# Altium integrated library Analog Devices Interface and Isolation Digital Isolators.IntLib: 644 symbols (part 11 of 37)
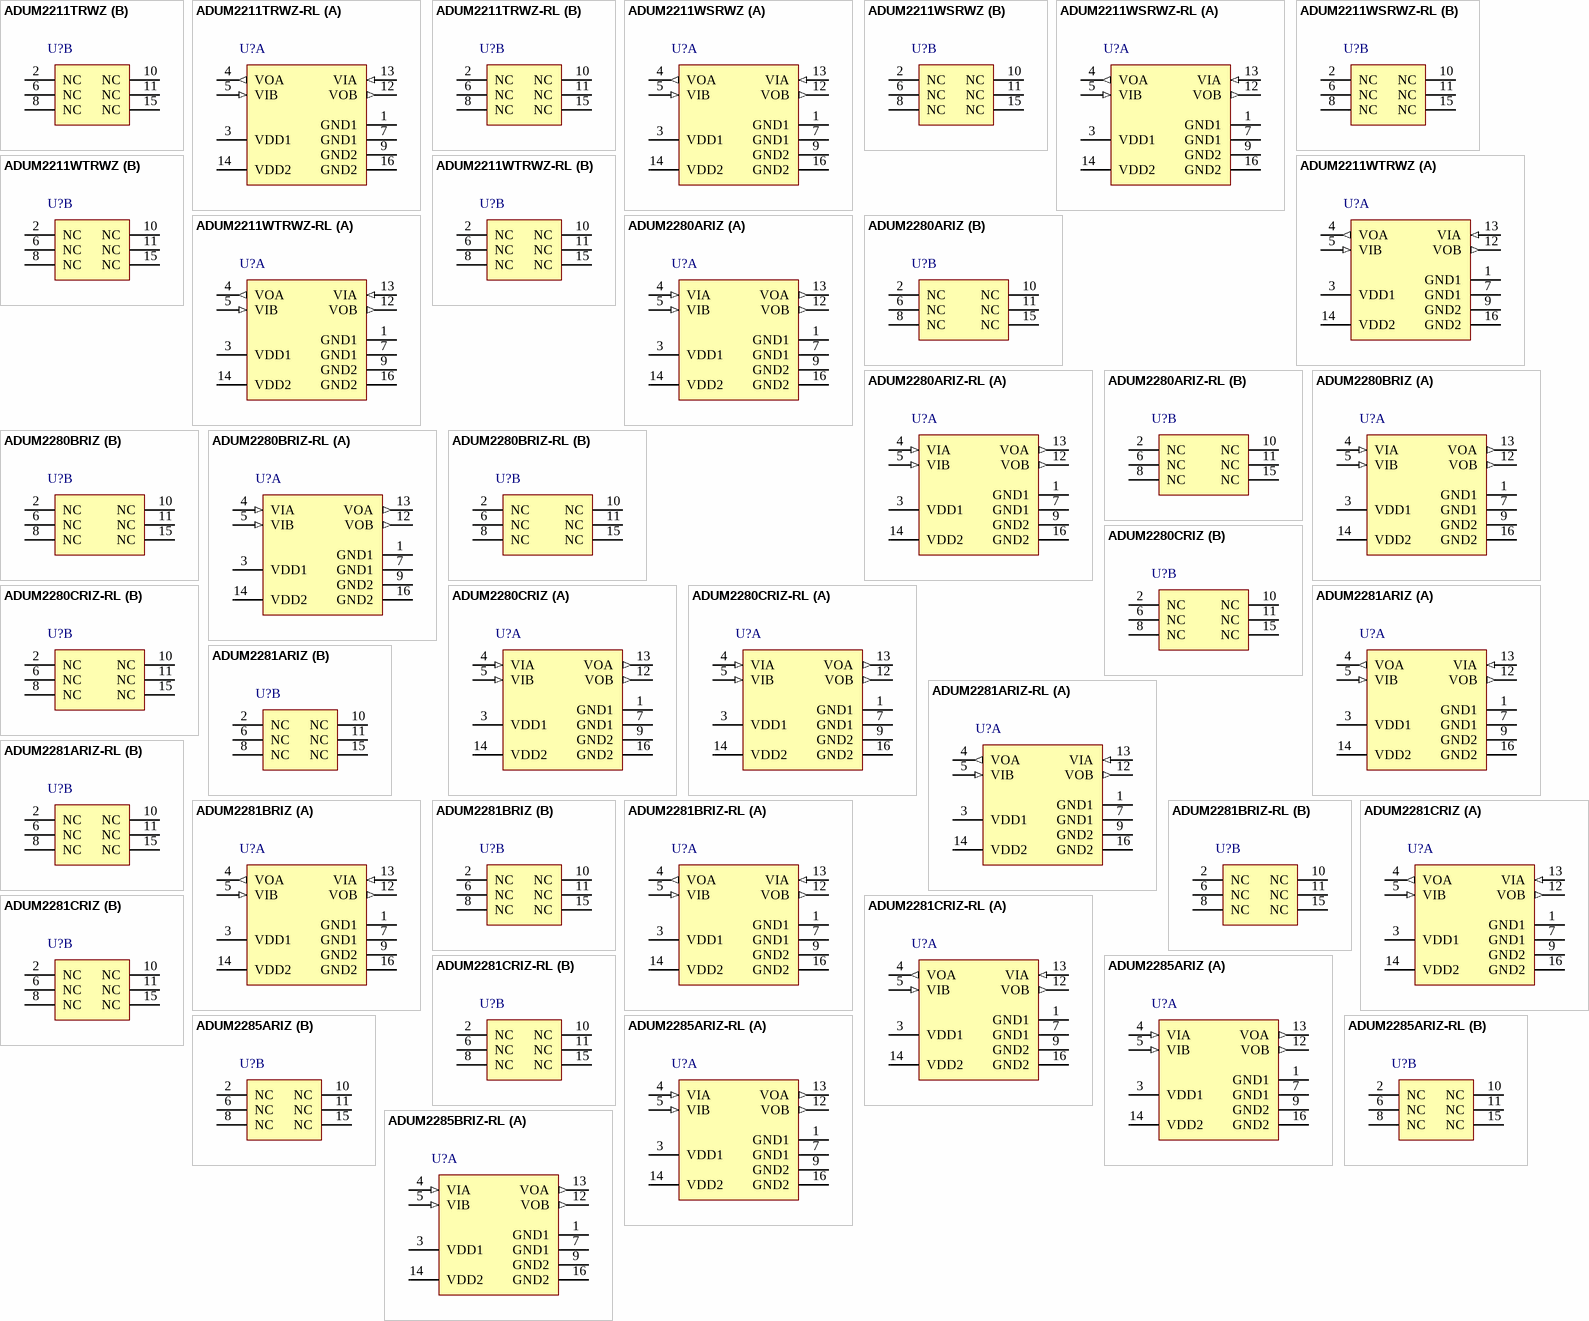
[diagram p30: symbols ADUM2211TRWZ to ADUM2285BRIZ-RL]

## ADUM2281BRIZ
designator U?
Dual Channel Digital Isolator, 5 KV rms Insulation Rating, 25 Mbps Data Rate, 35 ns Delay, Industrial, 16-pin SOIC (RI-16-2), Tube; Manufacturer: Analog Devices; PartNumber: ADUM2281BRIZ; Insulation Rating (kVrms): 5; Max Data Rate: 25Mbps; DatasheetVersion: 11-15-2011-A; PackageVersion: 11-15-2011-A, 11/2012; PackageReference: RI-16-2; PackageDescription: 16-Pin Standard Small Outline Package, with Increased Creepage, Body 12.75 x 7.5 mm, Pitch 1.27 mm; Supplier 1: Digi-Key; Supplier Part Number 1: ADUM2281BRIZ-ND; Supplier 2: Mouser; Supplier Part Number 2: 584-ADUM2281BRIZ; Max Operating Temp (degreesC): 125; Mounting Technology: Surface Mount; Code_JEDEC: MS-013-AC; ComponentLink1Description: Manufacturer URL; ComponentLink1URL: http://www.analog.com/en/index.html; ComponentLink2Description: Datasheet; ComponentLink2URL: http://www.analog.com/static/imported-files/data_sheets/ADuM2280_2281_2285_2286.pdf; ComponentLink3Description: Package Specification; ComponentLink3URL: http://www.analog.com/static/imported-files/data_sheets/ADuM2280_2281_2285_2286.pdf; ComponentLink4Description: URL Link1; ComponentLink4URL: Product URL:http://www.analog.com/en/interface-isolation/digital-isolators/adum2281/products/product.html
footprint ADI-RI-16-2_N (SOIC, 16-Leads, Body 12.75x7.5mm, Pitch 1.27mm, IPC Medium Density)
footprint ADI-RI-16-2_L (SOIC, 16-Leads, Body 12.75x7.5mm, Pitch 1.27mm, IPC High Density)
footprint ADI-RI-16-2_M (SOIC, 16-Leads, Body 12.75x7.5mm, Pitch 1.27mm, IPC Low Density)
part A pins: 1 GND1 (power) "Ground 1. Ground reference for Isolator Side 1.", 3 VDD1 (power) "Supply Voltage for Isolator Side 1.", 4 VOA (out) "Logic Output A.", 5 VIB (in) "Logic Input B.", 7 GND1 (power) "Ground 1. Ground reference for Isolator Side 1.", 9 GND2 (power) "Ground 2. Ground reference for Isolator Side 2.", 12 VOB (out) "Logic Output B.", 13 VIA (in) "Logic Input A.", 14 VDD2 (power) "Supply Voltage for Isolator Side 2.", 16 GND2 (power) "Ground 2. Ground reference for Isolator Side 2."
part B pins: 2 NC "No internal connection.", 6 NC "No internal connection.", 8 NC "No internal connection.", 10 NC "No internal connection.", 11 NC "No internal connection.", 15 NC "No internal connection."

## ADUM2281BRIZ-RL
designator U?
Dual Channel Digital Isolator, 5 KV rms Insulation Rating, 25 Mbps Data Rate, 35 ns Delay, Industrial, 16-pin SOIC (RI-16-2), Reel; Manufacturer: Analog Devices; PartNumber: ADUM2281BRIZ-RL; Insulation Rating (kVrms): 5; Max Data Rate: 25Mbps; DatasheetVersion: 11-15-2011-A; PackageVersion: 11-15-2011-A, 11/2012; PackageReference: RI-16-2; PackageDescription: 16-Pin Standard Small Outline Package, with Increased Creepage, Body 12.75 x 7.5 mm, Pitch 1.27 mm; Supplier 1: Digi-Key; Supplier Part Number 1: ADUM2281BRIZ-RL-ND; Supplier 2: Mouser; Supplier Part Number 2: 584-ADUM2281BRIZ-R; Max Operating Temp (degreesC): 125; Mounting Technology: Surface Mount; Code_JEDEC: MS-013-AC; ComponentLink1Description: Manufacturer URL; ComponentLink1URL: http://www.analog.com/en/index.html; ComponentLink2Description: Datasheet; ComponentLink2URL: http://www.analog.com/static/imported-files/data_sheets/ADuM2280_2281_2285_2286.pdf; ComponentLink3Description: Package Specification; ComponentLink3URL: http://www.analog.com/static/imported-files/data_sheets/ADuM2280_2281_2285_2286.pdf; ComponentLink4Description: URL Link1; ComponentLink4URL: Product URL:http://www.analog.com/en/interface-isolation/digital-isolators/adum2281/products/product.html
footprint ADI-RI-16-2_N (SOIC, 16-Leads, Body 12.75x7.5mm, Pitch 1.27mm, IPC Medium Density)
footprint ADI-RI-16-2_L (SOIC, 16-Leads, Body 12.75x7.5mm, Pitch 1.27mm, IPC High Density)
footprint ADI-RI-16-2_M (SOIC, 16-Leads, Body 12.75x7.5mm, Pitch 1.27mm, IPC Low Density)
part A pins: 1 GND1 (power) "Ground 1. Ground reference for Isolator Side 1.", 3 VDD1 (power) "Supply Voltage for Isolator Side 1.", 4 VOA (out) "Logic Output A.", 5 VIB (in) "Logic Input B.", 7 GND1 (power) "Ground 1. Ground reference for Isolator Side 1.", 9 GND2 (power) "Ground 2. Ground reference for Isolator Side 2.", 12 VOB (out) "Logic Output B.", 13 VIA (in) "Logic Input A.", 14 VDD2 (power) "Supply Voltage for Isolator Side 2.", 16 GND2 (power) "Ground 2. Ground reference for Isolator Side 2."
part B pins: 2 NC "No internal connection.", 6 NC "No internal connection.", 8 NC "No internal connection.", 10 NC "No internal connection.", 11 NC "No internal connection.", 15 NC "No internal connection."

## ADUM2281CRIZ
designator U?
Dual Channel Digital Isolator, 5 KV rms Insulation Rating, 100 Mbps Data Rate, 24 ns Delay, Industrial, 16-pin SOIC (RI-16-2), Tube; Manufacturer: Analog Devices; PartNumber: ADUM2281CRIZ; Insulation Rating (kVrms): 5; DatasheetVersion: 11-15-2011-A; PackageVersion: 11-15-2011-A, 11/2012; PackageReference: RI-16-2; PackageDescription: 16-Pin Standard Small Outline Package, with Increased Creepage, Body 12.75 x 7.5 mm, Pitch 1.27 mm; Supplier 1: Digi-Key; Supplier Part Number 1: ADUM2281CRIZ-ND; Supplier 2: Farnell; Supplier Part Number 2: 2254985; Supplier 3: Mouser; Supplier Part Number 3: 584-ADUM2281CRIZ; Max Data Rate: 100Mbps; Max Operating Temp (degreesC): 125; Mounting Technology: Surface Mount; Code_JEDEC: MS-013-AC; ComponentLink1Description: Manufacturer URL; ComponentLink1URL: http://www.analog.com/en/index.html; ComponentLink2Description: Datasheet; ComponentLink2URL: http://www.analog.com/static/imported-files/data_sheets/ADuM2280_2281_2285_2286.pdf; ComponentLink3Description: Package Specification; ComponentLink3URL: http://www.analog.com/static/imported-files/data_sheets/ADuM2280_2281_2285_2286.pdf; ComponentLink4Description: URL Link1; ComponentLink4URL: Product URL:http://www.analog.com/en/interface-isolation/digital-isolators/adum2281/products/product.html
footprint ADI-RI-16-2_N (SOIC, 16-Leads, Body 12.75x7.5mm, Pitch 1.27mm, IPC Medium Density)
footprint ADI-RI-16-2_L (SOIC, 16-Leads, Body 12.75x7.5mm, Pitch 1.27mm, IPC High Density)
footprint ADI-RI-16-2_M (SOIC, 16-Leads, Body 12.75x7.5mm, Pitch 1.27mm, IPC Low Density)
part A pins: 1 GND1 (power) "Ground 1. Ground reference for Isolator Side 1.", 3 VDD1 (power) "Supply Voltage for Isolator Side 1.", 4 VOA (out) "Logic Output A.", 5 VIB (in) "Logic Input B.", 7 GND1 (power) "Ground 1. Ground reference for Isolator Side 1.", 9 GND2 (power) "Ground 2. Ground reference for Isolator Side 2.", 12 VOB (out) "Logic Output B.", 13 VIA (in) "Logic Input A.", 14 VDD2 (power) "Supply Voltage for Isolator Side 2.", 16 GND2 (power) "Ground 2. Ground reference for Isolator Side 2."
part B pins: 2 NC "No internal connection.", 6 NC "No internal connection.", 8 NC "No internal connection.", 10 NC "No internal connection.", 11 NC "No internal connection.", 15 NC "No internal connection."

## ADUM2281CRIZ-RL
designator U?
Dual Channel Digital Isolator, 5 KV rms Insulation Rating, 100 Mbps Data Rate, 24 ns Delay, Industrial, 16-pin SOIC (RI-16-2), Reel; Manufacturer: Analog Devices; PartNumber: ADUM2281CRIZ-RL; Insulation Rating (kVrms): 5; DatasheetVersion: 11-15-2011-A; PackageVersion: 11-15-2011-A, 11/2012; PackageReference: RI-16-2; PackageDescription: 16-Pin Standard Small Outline Package, with Increased Creepage, Body 12.75 x 7.5 mm, Pitch 1.27 mm; Supplier 1: Digi-Key; Supplier Part Number 1: ADUM2281CRIZ-RL-ND; Supplier 2: Mouser; Supplier Part Number 2: 584-ADUM2281CRIZ-R; Max Data Rate: 100Mbps; Max Operating Temp (degreesC): 125; Mounting Technology: Surface Mount; Code_JEDEC: MS-013-AC; ComponentLink1Description: Manufacturer URL; ComponentLink1URL: http://www.analog.com/en/index.html; ComponentLink2Description: Datasheet; ComponentLink2URL: http://www.analog.com/static/imported-files/data_sheets/ADuM2280_2281_2285_2286.pdf; ComponentLink3Description: Package Specification; ComponentLink3URL: http://www.analog.com/static/imported-files/data_sheets/ADuM2280_2281_2285_2286.pdf; ComponentLink4Description: URL Link1; ComponentLink4URL: Product URL:http://www.analog.com/en/interface-isolation/digital-isolators/adum2281/products/product.html
footprint ADI-RI-16-2_N (SOIC, 16-Leads, Body 12.75x7.5mm, Pitch 1.27mm, IPC Medium Density)
footprint ADI-RI-16-2_L (SOIC, 16-Leads, Body 12.75x7.5mm, Pitch 1.27mm, IPC High Density)
footprint ADI-RI-16-2_M (SOIC, 16-Leads, Body 12.75x7.5mm, Pitch 1.27mm, IPC Low Density)
part A pins: 1 GND1 (power) "Ground 1. Ground reference for Isolator Side 1.", 3 VDD1 (power) "Supply Voltage for Isolator Side 1.", 4 VOA (out) "Logic Output A.", 5 VIB (in) "Logic Input B.", 7 GND1 (power) "Ground 1. Ground reference for Isolator Side 1.", 9 GND2 (power) "Ground 2. Ground reference for Isolator Side 2.", 12 VOB (out) "Logic Output B.", 13 VIA (in) "Logic Input A.", 14 VDD2 (power) "Supply Voltage for Isolator Side 2.", 16 GND2 (power) "Ground 2. Ground reference for Isolator Side 2."
part B pins: 2 NC "No internal connection.", 6 NC "No internal connection.", 8 NC "No internal connection.", 10 NC "No internal connection.", 11 NC "No internal connection.", 15 NC "No internal connection."

## ADUM2285ARIZ
designator U?
Dual Channel Digital Isolator, 5 KV rms Insulation Rating, 1 Mbps Data Rate, 50 ns Delay, Industrial, 16-pin SOIC (RI-16-2), Tube; Manufacturer: Analog Devices; PartNumber: ADUM2285ARIZ; Insulation Rating (kVrms): 5; Max Data Rate: 1Mbps; DatasheetVersion: 11-15-2011-A; PackageVersion: 11-15-2011-A, 11/2012; PackageReference: RI-16-2; PackageDescription: 16-Pin Standard Small Outline Package, with Increased Creepage, Body 12.75 x 7.5 mm, Pitch 1.27 mm; Supplier 1: Digi-Key; Supplier Part Number 1: ADUM2285ARIZ-ND; Supplier 2: Mouser; Supplier Part Number 2: 584-ADUM2285ARIZ; Max Operating Temp (degreesC): 125; Mounting Technology: Surface Mount; Code_JEDEC: MS-013-AC; ComponentLink1Description: Manufacturer URL; ComponentLink1URL: http://www.analog.com/en/index.html; ComponentLink2Description: Datasheet; ComponentLink2URL: http://www.analog.com/static/imported-files/data_sheets/ADuM2280_2281_2285_2286.pdf; ComponentLink3Description: Package Specification; ComponentLink3URL: http://www.analog.com/static/imported-files/data_sheets/ADuM2280_2281_2285_2286.pdf; ComponentLink4Description: URL Link1; ComponentLink4URL: Product URL:http://www.analog.com/en/interface-isolation/digital-isolators/adum2285/products/product.html
footprint ADI-RI-16-2_N (SOIC, 16-Leads, Body 12.75x7.5mm, Pitch 1.27mm, IPC Medium Density)
footprint ADI-RI-16-2_L (SOIC, 16-Leads, Body 12.75x7.5mm, Pitch 1.27mm, IPC High Density)
footprint ADI-RI-16-2_M (SOIC, 16-Leads, Body 12.75x7.5mm, Pitch 1.27mm, IPC Low Density)
part A pins: 1 GND1 (power) "Ground 1. Ground reference for Isolator Side 1.", 3 VDD1 (power) "Supply Voltage for Isolator Side 1, 2.7 V to 5.5 V.", 4 VIA (in) "Logic Input A.", 5 VIB (in) "Logic Input B.", 7 GND1 (power) "Ground 1. Ground reference for Isolator Side 1.", 9 GND2 (power) "Ground 2. Ground reference for Isolator Side 2.", 12 VOB (out) "Logic Output B.", 13 VOA (out) "Logic Output A.", 14 VDD2 (power) "Supply Voltage for Isolator Side 2, 2.7 V to 5.5 V.", 16 GND2 (power) "Ground 2. Ground reference for Isolator Side 2."
part B pins: 2 NC "No internal connection.", 6 NC "No internal connection.", 8 NC "No internal connection.", 10 NC "No internal connection.", 11 NC "No internal connection.", 15 NC "No internal connection."

## ADUM2285ARIZ-RL
designator U?
Dual Channel Digital Isolator, 5 KV rms Insulation Rating, 1 Mbps Data Rate, 50 ns Delay, Industrial, 16-pin SOIC (RI-16-2), Reel; Manufacturer: Analog Devices; PartNumber: ADUM2285ARIZ-RL; Insulation Rating (kVrms): 5; Max Data Rate: 1Mbps; DatasheetVersion: 11-15-2011-A; PackageVersion: 11-15-2011-A, 11/2012; PackageReference: RI-16-2; PackageDescription: 16-Pin Standard Small Outline Package, with Increased Creepage, Body 12.75 x 7.5 mm, Pitch 1.27 mm; Supplier 1: Digi-Key; Supplier Part Number 1: ADUM2285ARIZ-RL-ND; Supplier 2: Mouser; Supplier Part Number 2: 584-ADUM2285ARIZ-R; Max Operating Temp (degreesC): 125; Mounting Technology: Surface Mount; Code_JEDEC: MS-013-AC; ComponentLink1Description: Manufacturer URL; ComponentLink1URL: http://www.analog.com/en/index.html; ComponentLink2Description: Datasheet; ComponentLink2URL: http://www.analog.com/static/imported-files/data_sheets/ADuM2280_2281_2285_2286.pdf; ComponentLink3Description: Package Specification; ComponentLink3URL: http://www.analog.com/static/imported-files/data_sheets/ADuM2280_2281_2285_2286.pdf; ComponentLink4Description: URL Link1; ComponentLink4URL: Product URL:http://www.analog.com/en/interface-isolation/digital-isolators/adum2285/products/product.html
footprint ADI-RI-16-2_N (SOIC, 16-Leads, Body 12.75x7.5mm, Pitch 1.27mm, IPC Medium Density)
footprint ADI-RI-16-2_L (SOIC, 16-Leads, Body 12.75x7.5mm, Pitch 1.27mm, IPC High Density)
footprint ADI-RI-16-2_M (SOIC, 16-Leads, Body 12.75x7.5mm, Pitch 1.27mm, IPC Low Density)
part A pins: 1 GND1 (power) "Ground 1. Ground reference for Isolator Side 1.", 3 VDD1 (power) "Supply Voltage for Isolator Side 1, 2.7 V to 5.5 V.", 4 VIA (in) "Logic Input A.", 5 VIB (in) "Logic Input B.", 7 GND1 (power) "Ground 1. Ground reference for Isolator Side 1.", 9 GND2 (power) "Ground 2. Ground reference for Isolator Side 2.", 12 VOB (out) "Logic Output B.", 13 VOA (out) "Logic Output A.", 14 VDD2 (power) "Supply Voltage for Isolator Side 2, 2.7 V to 5.5 V.", 16 GND2 (power) "Ground 2. Ground reference for Isolator Side 2."
part B pins: 2 NC "No internal connection.", 6 NC "No internal connection.", 8 NC "No internal connection.", 10 NC "No internal connection.", 11 NC "No internal connection.", 15 NC "No internal connection."

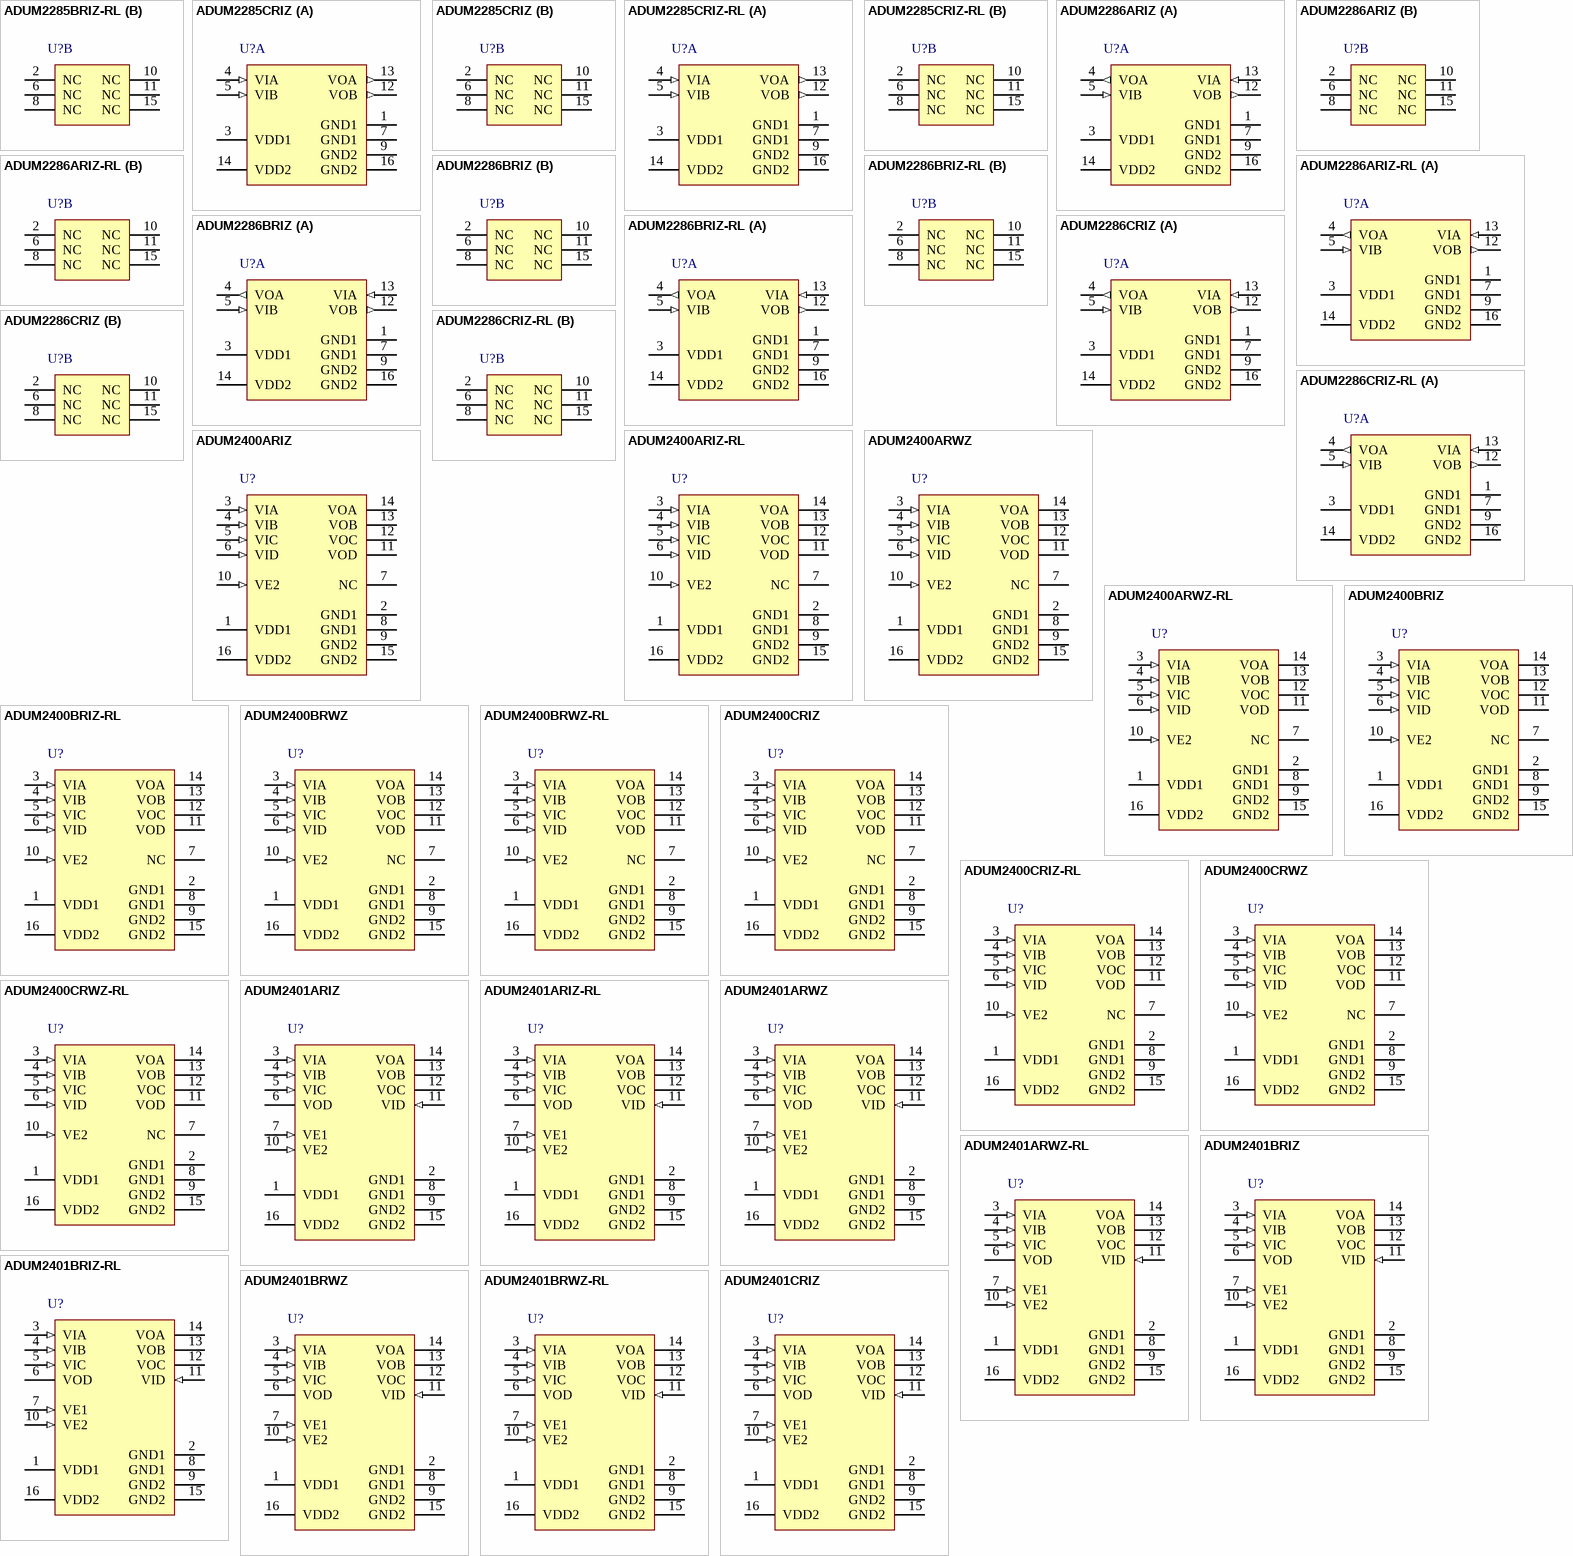
[diagram p7: symbols ADUM2285BRIZ-RL to ADUM2401CRIZ]

## ADUM2285BRIZ-RL
designator U?
Dual Channel Digital Isolator, 5 KV rms Insulation Rating, 25 Mbps Data Rate, 35 ns Delay, Industrial, 16-pin SOIC (RI-16-2), Reel; Manufacturer: Analog Devices; PartNumber: ADUM2285BRIZ-RL; Insulation Rating (kVrms): 5; Max Data Rate: 25Mbps; DatasheetVersion: 11-15-2011-A; PackageVersion: 11-15-2011-A, 11/2012; PackageReference: RI-16-2; PackageDescription: 16-Pin Standard Small Outline Package, with Increased Creepage, Body 12.75 x 7.5 mm, Pitch 1.27 mm; Supplier 1: Digi-Key; Supplier Part Number 1: ADUM2285BRIZ-RL-ND; Supplier 2: Mouser; Supplier Part Number 2: 584-ADUM2285BRIZ-R; Max Operating Temp (degreesC): 125; Mounting Technology: Surface Mount; Code_JEDEC: MS-013-AC; ComponentLink1Description: Manufacturer URL; ComponentLink1URL: http://www.analog.com/en/index.html; ComponentLink2Description: Datasheet; ComponentLink2URL: http://www.analog.com/static/imported-files/data_sheets/ADuM2280_2281_2285_2286.pdf; ComponentLink3Description: Package Specification; ComponentLink3URL: http://www.analog.com/static/imported-files/data_sheets/ADuM2280_2281_2285_2286.pdf; ComponentLink4Description: URL Link1; ComponentLink4URL: Product URL:http://www.analog.com/en/interface-isolation/digital-isolators/adum2285/products/product.html
footprint ADI-RI-16-2_N (SOIC, 16-Leads, Body 12.75x7.5mm, Pitch 1.27mm, IPC Medium Density)
footprint ADI-RI-16-2_L (SOIC, 16-Leads, Body 12.75x7.5mm, Pitch 1.27mm, IPC High Density)
footprint ADI-RI-16-2_M (SOIC, 16-Leads, Body 12.75x7.5mm, Pitch 1.27mm, IPC Low Density)
part A pins: 1 GND1 (power) "Ground 1. Ground reference for Isolator Side 1.", 3 VDD1 (power) "Supply Voltage for Isolator Side 1, 2.7 V to 5.5 V.", 4 VIA (in) "Logic Input A.", 5 VIB (in) "Logic Input B.", 7 GND1 (power) "Ground 1. Ground reference for Isolator Side 1.", 9 GND2 (power) "Ground 2. Ground reference for Isolator Side 2.", 12 VOB (out) "Logic Output B.", 13 VOA (out) "Logic Output A.", 14 VDD2 (power) "Supply Voltage for Isolator Side 2, 2.7 V to 5.5 V.", 16 GND2 (power) "Ground 2. Ground reference for Isolator Side 2."
part B pins: 2 NC "No internal connection.", 6 NC "No internal connection.", 8 NC "No internal connection.", 10 NC "No internal connection.", 11 NC "No internal connection.", 15 NC "No internal connection."

## ADUM2285CRIZ
designator U?
Dual Channel Digital Isolator, 5 KV rms Insulation Rating, 100 Mbps Data Rate, 24 ns Delay, Industrial, 16-pin SOIC (RI-16-2), Tube; Manufacturer: Analog Devices; PartNumber: ADUM2285CRIZ; Insulation Rating (kVrms): 5; DatasheetVersion: 11-15-2011-A; PackageVersion: 11-15-2011-A, 11/2012; PackageReference: RI-16-2; PackageDescription: 16-Pin Standard Small Outline Package, with Increased Creepage, Body 12.75 x 7.5 mm, Pitch 1.27 mm; Supplier 1: Digi-Key; Supplier Part Number 1: ADUM2285CRIZ-ND; Supplier 2: Farnell; Supplier Part Number 2: 2254986; Supplier 3: Mouser; Supplier Part Number 3: 584-ADUM2285CRIZ; Max Data Rate: 100Mbps; Max Operating Temp (degreesC): 125; Mounting Technology: Surface Mount; Code_JEDEC: MS-013-AC; ComponentLink1Description: Manufacturer URL; ComponentLink1URL: http://www.analog.com/en/index.html; ComponentLink2Description: Datasheet; ComponentLink2URL: http://www.analog.com/static/imported-files/data_sheets/ADuM2280_2281_2285_2286.pdf; ComponentLink3Description: Package Specification; ComponentLink3URL: http://www.analog.com/static/imported-files/data_sheets/ADuM2280_2281_2285_2286.pdf; ComponentLink4Description: URL Link1; ComponentLink4URL: Product URL:http://www.analog.com/en/interface-isolation/digital-isolators/adum2285/products/product.html
footprint ADI-RI-16-2_N (SOIC, 16-Leads, Body 12.75x7.5mm, Pitch 1.27mm, IPC Medium Density)
footprint ADI-RI-16-2_L (SOIC, 16-Leads, Body 12.75x7.5mm, Pitch 1.27mm, IPC High Density)
footprint ADI-RI-16-2_M (SOIC, 16-Leads, Body 12.75x7.5mm, Pitch 1.27mm, IPC Low Density)
part A pins: 1 GND1 (power) "Ground 1. Ground reference for Isolator Side 1.", 3 VDD1 (power) "Supply Voltage for Isolator Side 1, 2.7 V to 5.5 V.", 4 VIA (in) "Logic Input A.", 5 VIB (in) "Logic Input B.", 7 GND1 (power) "Ground 1. Ground reference for Isolator Side 1.", 9 GND2 (power) "Ground 2. Ground reference for Isolator Side 2.", 12 VOB (out) "Logic Output B.", 13 VOA (out) "Logic Output A.", 14 VDD2 (power) "Supply Voltage for Isolator Side 2, 2.7 V to 5.5 V.", 16 GND2 (power) "Ground 2. Ground reference for Isolator Side 2."
part B pins: 2 NC "No internal connection.", 6 NC "No internal connection.", 8 NC "No internal connection.", 10 NC "No internal connection.", 11 NC "No internal connection.", 15 NC "No internal connection."

## ADUM2285CRIZ-RL
designator U?
Dual Channel Digital Isolator, 5 KV rms Insulation Rating, 100 Mbps Data Rate, 24 ns Delay, Industrial, 16-pin SOIC (RI-16-2), Reel; Manufacturer: Analog Devices; PartNumber: ADUM2285CRIZ-RL; Insulation Rating (kVrms): 5; DatasheetVersion: 11-15-2011-A; PackageVersion: 11-15-2011-A, 11/2012; PackageReference: RI-16-2; PackageDescription: 16-Pin Standard Small Outline Package, with Increased Creepage, Body 12.75 x 7.5 mm, Pitch 1.27 mm; Supplier 1: Digi-Key; Supplier Part Number 1: ADUM2285CRIZ-RL-ND; Supplier 2: Mouser; Supplier Part Number 2: 584-ADUM2285CRIZ-R; Max Data Rate: 100Mbps; Max Operating Temp (degreesC): 125; Mounting Technology: Surface Mount; Code_JEDEC: MS-013-AC; ComponentLink1Description: Manufacturer URL; ComponentLink1URL: http://www.analog.com/en/index.html; ComponentLink2Description: Datasheet; ComponentLink2URL: http://www.analog.com/static/imported-files/data_sheets/ADuM2280_2281_2285_2286.pdf; ComponentLink3Description: Package Specification; ComponentLink3URL: http://www.analog.com/static/imported-files/data_sheets/ADuM2280_2281_2285_2286.pdf; ComponentLink4Description: URL Link1; ComponentLink4URL: Product URL:http://www.analog.com/en/interface-isolation/digital-isolators/adum2285/products/product.html
footprint ADI-RI-16-2_N (SOIC, 16-Leads, Body 12.75x7.5mm, Pitch 1.27mm, IPC Medium Density)
footprint ADI-RI-16-2_L (SOIC, 16-Leads, Body 12.75x7.5mm, Pitch 1.27mm, IPC High Density)
footprint ADI-RI-16-2_M (SOIC, 16-Leads, Body 12.75x7.5mm, Pitch 1.27mm, IPC Low Density)
part A pins: 1 GND1 (power) "Ground 1. Ground reference for Isolator Side 1.", 3 VDD1 (power) "Supply Voltage for Isolator Side 1, 2.7 V to 5.5 V.", 4 VIA (in) "Logic Input A.", 5 VIB (in) "Logic Input B.", 7 GND1 (power) "Ground 1. Ground reference for Isolator Side 1.", 9 GND2 (power) "Ground 2. Ground reference for Isolator Side 2.", 12 VOB (out) "Logic Output B.", 13 VOA (out) "Logic Output A.", 14 VDD2 (power) "Supply Voltage for Isolator Side 2, 2.7 V to 5.5 V.", 16 GND2 (power) "Ground 2. Ground reference for Isolator Side 2."
part B pins: 2 NC "No internal connection.", 6 NC "No internal connection.", 8 NC "No internal connection.", 10 NC "No internal connection.", 11 NC "No internal connection.", 15 NC "No internal connection."

## ADUM2286ARIZ
designator U?
Dual Channel Digital Isolator, 5 KV rms Insulation Rating, 1 Mbps Data Rate, 50 ns Delay, Industrial, 16-pin SOIC (RI-16-2), Tube; Manufacturer: Analog Devices; PartNumber: ADUM2286ARIZ; Insulation Rating (kVrms): 5; Max Data Rate: 1Mbps; DatasheetVersion: 11-15-2011-A; PackageVersion: 11-15-2011-A, 11/2012; PackageReference: RI-16-2; PackageDescription: 16-Pin Standard Small Outline Package, with Increased Creepage, Body 12.75 x 7.5 mm, Pitch 1.27 mm; Supplier 1: Digi-Key; Supplier Part Number 1: ADUM2286ARIZ-ND; Supplier 2: Mouser; Supplier Part Number 2: 584-ADUM2286ARIZ; Max Operating Temp (degreesC): 125; Mounting Technology: Surface Mount; Code_JEDEC: MS-013-AC; ComponentLink1Description: Manufacturer URL; ComponentLink1URL: http://www.analog.com/en/index.html; ComponentLink2Description: Datasheet; ComponentLink2URL: http://www.analog.com/static/imported-files/data_sheets/ADuM2280_2281_2285_2286.pdf; ComponentLink3Description: Package Specification; ComponentLink3URL: http://www.analog.com/static/imported-files/data_sheets/ADuM2280_2281_2285_2286.pdf; ComponentLink4Description: URL Link1; ComponentLink4URL: Product URL:http://www.analog.com/en/interface-isolation/digital-isolators/adum2286/products/product.html
footprint ADI-RI-16-2_N (SOIC, 16-Leads, Body 12.75x7.5mm, Pitch 1.27mm, IPC Medium Density)
footprint ADI-RI-16-2_L (SOIC, 16-Leads, Body 12.75x7.5mm, Pitch 1.27mm, IPC High Density)
footprint ADI-RI-16-2_M (SOIC, 16-Leads, Body 12.75x7.5mm, Pitch 1.27mm, IPC Low Density)
part A pins: 1 GND1 (power) "Ground 1. Ground reference for Isolator Side 1.", 3 VDD1 (power) "Supply Voltage for Isolator Side 1.", 4 VOA (out) "Logic Output A.", 5 VIB (in) "Logic Input B.", 7 GND1 (power) "Ground 1. Ground reference for Isolator Side 1.", 9 GND2 (power) "Ground 2. Ground reference for Isolator Side 2.", 12 VOB (out) "Logic Output B.", 13 VIA (in) "Logic Input A.", 14 VDD2 (power) "Supply Voltage for Isolator Side 2.", 16 GND2 (power) "Ground 2. Ground reference for Isolator Side 2."
part B pins: 2 NC "No internal connection.", 6 NC "No internal connection.", 8 NC "No internal connection.", 10 NC "No internal connection.", 11 NC "No internal connection.", 15 NC "No internal connection."

## ADUM2286ARIZ-RL
designator U?
Dual Channel Digital Isolator, 5 KV rms Insulation Rating, 1 Mbps Data Rate, 50 ns Delay, Industrial, 16-pin SOIC (RI-16-2), Reel; Manufacturer: Analog Devices; PartNumber: ADUM2286ARIZ-RL; Insulation Rating (kVrms): 5; Max Data Rate: 1Mbps; DatasheetVersion: 11-15-2011-A; PackageVersion: 11-15-2011-A, 11/2012; PackageReference: RI-16-2; PackageDescription: 16-Pin Standard Small Outline Package, with Increased Creepage, Body 12.75 x 7.5 mm, Pitch 1.27 mm; Supplier 1: Digi-Key; Supplier Part Number 1: ADUM2286ARIZ-RL-ND; Supplier 2: Mouser; Supplier Part Number 2: 584-ADUM2286ARIZ-R; Max Operating Temp (degreesC): 125; Mounting Technology: Surface Mount; Code_JEDEC: MS-013-AC; ComponentLink1Description: Manufacturer URL; ComponentLink1URL: http://www.analog.com/en/index.html; ComponentLink2Description: Datasheet; ComponentLink2URL: http://www.analog.com/static/imported-files/data_sheets/ADuM2280_2281_2285_2286.pdf; ComponentLink3Description: Package Specification; ComponentLink3URL: http://www.analog.com/static/imported-files/data_sheets/ADuM2280_2281_2285_2286.pdf; ComponentLink4Description: URL Link1; ComponentLink4URL: Product URL:http://www.analog.com/en/interface-isolation/digital-isolators/adum2286/products/product.html
footprint ADI-RI-16-2_N (SOIC, 16-Leads, Body 12.75x7.5mm, Pitch 1.27mm, IPC Medium Density)
footprint ADI-RI-16-2_L (SOIC, 16-Leads, Body 12.75x7.5mm, Pitch 1.27mm, IPC High Density)
footprint ADI-RI-16-2_M (SOIC, 16-Leads, Body 12.75x7.5mm, Pitch 1.27mm, IPC Low Density)
part A pins: 1 GND1 (power) "Ground 1. Ground reference for Isolator Side 1.", 3 VDD1 (power) "Supply Voltage for Isolator Side 1.", 4 VOA (out) "Logic Output A.", 5 VIB (in) "Logic Input B.", 7 GND1 (power) "Ground 1. Ground reference for Isolator Side 1.", 9 GND2 (power) "Ground 2. Ground reference for Isolator Side 2.", 12 VOB (out) "Logic Output B.", 13 VIA (in) "Logic Input A.", 14 VDD2 (power) "Supply Voltage for Isolator Side 2.", 16 GND2 (power) "Ground 2. Ground reference for Isolator Side 2."
part B pins: 2 NC "No internal connection.", 6 NC "No internal connection.", 8 NC "No internal connection.", 10 NC "No internal connection.", 11 NC "No internal connection.", 15 NC "No internal connection."

## ADUM2286BRIZ
designator U?
Dual Channel Digital Isolator, 5 KV rms Insulation Rating, 25 Mbps Data Rate, 35 ns Delay, Industrial, 16-pin SOIC (RI-16-2), Tube; Manufacturer: Analog Devices; PartNumber: ADUM2286BRIZ; Insulation Rating (kVrms): 5; Max Data Rate: 25Mbps; DatasheetVersion: 11-15-2011-A; PackageVersion: 11-15-2011-A, 11/2012; PackageReference: RI-16-2; PackageDescription: 16-Pin Standard Small Outline Package, with Increased Creepage, Body 12.75 x 7.5 mm, Pitch 1.27 mm; Supplier 1: Digi-Key; Supplier Part Number 1: ADUM2286BRIZ-ND; Supplier 2: Mouser; Supplier Part Number 2: 584-ADUM2286BRIZ; Max Operating Temp (degreesC): 125; Mounting Technology: Surface Mount; Code_JEDEC: MS-013-AC; ComponentLink1Description: Manufacturer URL; ComponentLink1URL: http://www.analog.com/en/index.html; ComponentLink2Description: Datasheet; ComponentLink2URL: http://www.analog.com/static/imported-files/data_sheets/ADuM2280_2281_2285_2286.pdf; ComponentLink3Description: Package Specification; ComponentLink3URL: http://www.analog.com/static/imported-files/data_sheets/ADuM2280_2281_2285_2286.pdf; ComponentLink4Description: URL Link1; ComponentLink4URL: Product URL:http://www.analog.com/en/interface-isolation/digital-isolators/adum2286/products/product.html
footprint ADI-RI-16-2_N (SOIC, 16-Leads, Body 12.75x7.5mm, Pitch 1.27mm, IPC Medium Density)
footprint ADI-RI-16-2_L (SOIC, 16-Leads, Body 12.75x7.5mm, Pitch 1.27mm, IPC High Density)
footprint ADI-RI-16-2_M (SOIC, 16-Leads, Body 12.75x7.5mm, Pitch 1.27mm, IPC Low Density)
part A pins: 1 GND1 (power) "Ground 1. Ground reference for Isolator Side 1.", 3 VDD1 (power) "Supply Voltage for Isolator Side 1.", 4 VOA (out) "Logic Output A.", 5 VIB (in) "Logic Input B.", 7 GND1 (power) "Ground 1. Ground reference for Isolator Side 1.", 9 GND2 (power) "Ground 2. Ground reference for Isolator Side 2.", 12 VOB (out) "Logic Output B.", 13 VIA (in) "Logic Input A.", 14 VDD2 (power) "Supply Voltage for Isolator Side 2.", 16 GND2 (power) "Ground 2. Ground reference for Isolator Side 2."
part B pins: 2 NC "No internal connection.", 6 NC "No internal connection.", 8 NC "No internal connection.", 10 NC "No internal connection.", 11 NC "No internal connection.", 15 NC "No internal connection."

## ADUM2286BRIZ-RL
designator U?
Dual Channel Digital Isolator, 5 KV rms Insulation Rating, 25 Mbps Data Rate, 35 ns Delay, Industrial, 16-pin SOIC (RI-16-2), Reel; Manufacturer: Analog Devices; PartNumber: ADUM2286BRIZ-RL; Insulation Rating (kVrms): 5; Max Data Rate: 25Mbps; DatasheetVersion: 11-15-2011-A; PackageVersion: 11-15-2011-A, 11/2012; PackageReference: RI-16-2; PackageDescription: 16-Pin Standard Small Outline Package, with Increased Creepage, Body 12.75 x 7.5 mm, Pitch 1.27 mm; Supplier 1: Digi-Key; Supplier Part Number 1: ADUM2286BRIZ-RL-ND; Supplier 2: Mouser; Supplier Part Number 2: 584-ADUM2286BRIZ-R; Max Operating Temp (degreesC): 125; Mounting Technology: Surface Mount; Code_JEDEC: MS-013-AC; ComponentLink1Description: Manufacturer URL; ComponentLink1URL: http://www.analog.com/en/index.html; ComponentLink2Description: Datasheet; ComponentLink2URL: http://www.analog.com/static/imported-files/data_sheets/ADuM2280_2281_2285_2286.pdf; ComponentLink3Description: Package Specification; ComponentLink3URL: http://www.analog.com/static/imported-files/data_sheets/ADuM2280_2281_2285_2286.pdf; ComponentLink4Description: URL Link1; ComponentLink4URL: Product URL:http://www.analog.com/en/interface-isolation/digital-isolators/adum2286/products/product.html
footprint ADI-RI-16-2_N (SOIC, 16-Leads, Body 12.75x7.5mm, Pitch 1.27mm, IPC Medium Density)
footprint ADI-RI-16-2_L (SOIC, 16-Leads, Body 12.75x7.5mm, Pitch 1.27mm, IPC High Density)
footprint ADI-RI-16-2_M (SOIC, 16-Leads, Body 12.75x7.5mm, Pitch 1.27mm, IPC Low Density)
part A pins: 1 GND1 (power) "Ground 1. Ground reference for Isolator Side 1.", 3 VDD1 (power) "Supply Voltage for Isolator Side 1.", 4 VOA (out) "Logic Output A.", 5 VIB (in) "Logic Input B.", 7 GND1 (power) "Ground 1. Ground reference for Isolator Side 1.", 9 GND2 (power) "Ground 2. Ground reference for Isolator Side 2.", 12 VOB (out) "Logic Output B.", 13 VIA (in) "Logic Input A.", 14 VDD2 (power) "Supply Voltage for Isolator Side 2.", 16 GND2 (power) "Ground 2. Ground reference for Isolator Side 2."
part B pins: 2 NC "No internal connection.", 6 NC "No internal connection.", 8 NC "No internal connection.", 10 NC "No internal connection.", 11 NC "No internal connection.", 15 NC "No internal connection."

## ADUM2286CRIZ
designator U?
Dual Channel Digital Isolator, 5 KV rms Insulation Rating, 100 Mbps Data Rate, 24 ns Delay, Industrial, 16-pin SOIC (RI-16-2), Tube; Manufacturer: Analog Devices; PartNumber: ADUM2286CRIZ; Insulation Rating (kVrms): 5; DatasheetVersion: 11-15-2011-A; PackageVersion: 11-15-2011-A, 11/2012; PackageReference: RI-16-2; PackageDescription: 16-Pin Standard Small Outline Package, with Increased Creepage, Body 12.75 x 7.5 mm, Pitch 1.27 mm; Supplier 1: Digi-Key; Supplier Part Number 1: ADUM2286CRIZ-ND; Supplier 2: Farnell; Supplier Part Number 2: 2254987; Supplier 3: Mouser; Supplier Part Number 3: 584-ADUM2286CRIZ; Max Data Rate: 100Mbps; Max Operating Temp (degreesC): 125; Mounting Technology: Surface Mount; Code_JEDEC: MS-013-AC; ComponentLink1Description: Manufacturer URL; ComponentLink1URL: http://www.analog.com/en/index.html; ComponentLink2Description: Datasheet; ComponentLink2URL: http://www.analog.com/static/imported-files/data_sheets/ADuM2280_2281_2285_2286.pdf; ComponentLink3Description: Package Specification; ComponentLink3URL: http://www.analog.com/static/imported-files/data_sheets/ADuM2280_2281_2285_2286.pdf; ComponentLink4Description: URL Link1; ComponentLink4URL: Product URL:http://www.analog.com/en/interface-isolation/digital-isolators/adum2286/products/product.html
footprint ADI-RI-16-2_N (SOIC, 16-Leads, Body 12.75x7.5mm, Pitch 1.27mm, IPC Medium Density)
footprint ADI-RI-16-2_L (SOIC, 16-Leads, Body 12.75x7.5mm, Pitch 1.27mm, IPC High Density)
footprint ADI-RI-16-2_M (SOIC, 16-Leads, Body 12.75x7.5mm, Pitch 1.27mm, IPC Low Density)
part A pins: 1 GND1 (power) "Ground 1. Ground reference for Isolator Side 1.", 3 VDD1 (power) "Supply Voltage for Isolator Side 1.", 4 VOA (out) "Logic Output A.", 5 VIB (in) "Logic Input B.", 7 GND1 (power) "Ground 1. Ground reference for Isolator Side 1.", 9 GND2 (power) "Ground 2. Ground reference for Isolator Side 2.", 12 VOB (out) "Logic Output B.", 13 VIA (in) "Logic Input A.", 14 VDD2 (power) "Supply Voltage for Isolator Side 2.", 16 GND2 (power) "Ground 2. Ground reference for Isolator Side 2."
part B pins: 2 NC "No internal connection.", 6 NC "No internal connection.", 8 NC "No internal connection.", 10 NC "No internal connection.", 11 NC "No internal connection.", 15 NC "No internal connection."

## ADUM2286CRIZ-RL
designator U?
Dual Channel Digital Isolator, 5 KV rms Insulation Rating, 100 Mbps Data Rate, 24 ns Delay, Industrial, 16-pin SOIC (RI-16-2), Reel; Manufacturer: Analog Devices; PartNumber: ADUM2286CRIZ-RL; Insulation Rating (kVrms): 5; DatasheetVersion: 11-15-2011-A; PackageVersion: 11-15-2011-A, 11/2012; PackageReference: RI-16-2; PackageDescription: 16-Pin Standard Small Outline Package, with Increased Creepage, Body 12.75 x 7.5 mm, Pitch 1.27 mm; Supplier 1: Digi-Key; Supplier Part Number 1: ADUM2286CRIZ-RL-ND; Supplier 2: Mouser; Supplier Part Number 2: 584-ADUM2286CRIZ-R; Max Data Rate: 100Mbps; Max Operating Temp (degreesC): 125; Mounting Technology: Surface Mount; Code_JEDEC: MS-013-AC; ComponentLink1Description: Manufacturer URL; ComponentLink1URL: http://www.analog.com/en/index.html; ComponentLink2Description: Datasheet; ComponentLink2URL: http://www.analog.com/static/imported-files/data_sheets/ADuM2280_2281_2285_2286.pdf; ComponentLink3Description: Package Specification; ComponentLink3URL: http://www.analog.com/static/imported-files/data_sheets/ADuM2280_2281_2285_2286.pdf; ComponentLink4Description: URL Link1; ComponentLink4URL: Product URL:http://www.analog.com/en/interface-isolation/digital-isolators/adum2286/products/product.html
footprint ADI-RI-16-2_N (SOIC, 16-Leads, Body 12.75x7.5mm, Pitch 1.27mm, IPC Medium Density)
footprint ADI-RI-16-2_L (SOIC, 16-Leads, Body 12.75x7.5mm, Pitch 1.27mm, IPC High Density)
footprint ADI-RI-16-2_M (SOIC, 16-Leads, Body 12.75x7.5mm, Pitch 1.27mm, IPC Low Density)
part A pins: 1 GND1 (power) "Ground 1. Ground reference for Isolator Side 1.", 3 VDD1 (power) "Supply Voltage for Isolator Side 1.", 4 VOA (out) "Logic Output A.", 5 VIB (in) "Logic Input B.", 7 GND1 (power) "Ground 1. Ground reference for Isolator Side 1.", 9 GND2 (power) "Ground 2. Ground reference for Isolator Side 2.", 12 VOB (out) "Logic Output B.", 13 VIA (in) "Logic Input A.", 14 VDD2 (power) "Supply Voltage for Isolator Side 2.", 16 GND2 (power) "Ground 2. Ground reference for Isolator Side 2."
part B pins: 2 NC "No internal connection.", 6 NC "No internal connection.", 8 NC "No internal connection.", 10 NC "No internal connection.", 11 NC "No internal connection.", 15 NC "No internal connection."

## ADUM2400ARIZ
designator U?
Quad Channel Digital Isolator, 5 KV rms Insulation Rating, 1 Mbps Data Rate, 100 ns Delay, Industrial, 16-pin SOIC (RI-16-1), Tube; Manufacturer: Analog Devices; PartNumber: ADUM2400ARIZ; Insulation Rating (kVrms): 5; Max Data Rate: 1Mbps; DatasheetVersion: 10-12-2010-A; PackageVersion: 10-12-2010-A, 02/2012; PackageReference: RI-16-1; PackageDescription: 16-Pin Standard Small Outline Package, with Increased Creepage, Body 12.8 x 7.5 mm, Pitch 1.27 mm; Supplier 1: Digi-Key; Supplier Part Number 1: ADUM2400ARIZ-ND; Supplier 2: Mouser; Supplier Part Number 2: 584-ADUM2400ARIZ; Max Operating Temp (degreesC): 105; Mounting Technology: Surface Mount; Code_JEDEC: MS-013-AC; ComponentLink1Description: Manufacturer URL; ComponentLink1URL: http://www.analog.com/en/index.html; ComponentLink2Description: Datasheet; ComponentLink2URL: http://www.analog.com/static/imported-files/data_sheets/ADuM2400_2401_2402.pdf; ComponentLink3Description: Package Specification; ComponentLink3URL: http://www.analog.com/static/imported-files/data_sheets/ADuM2400_2401_2402.pdf; ComponentLink4Description: URL Link1; ComponentLink4URL: Product URL:http://www.analog.com/en/interface-isolation/digital-isolators/adum2400/products/product.html
footprint ADI-RI-16-1_N (SOIC, 16-Leads, Body 12.8x7.5mm, Pitch 1.27mm, IPC Medium Density)
footprint ADI-RI-16-1_L (SOIC, 16-Leads, Body 12.8x7.5mm, Pitch 1.27mm, IPC High Density)
footprint ADI-RI-16-1_M (SOIC, 16-Leads, Body 12.8x7.5mm, Pitch 1.27mm, IPC Low Density)
pins: 1 VDD1 (power) "Supply Voltage for Isolator Side 1.", 2 GND1 (power) "Ground 1. Ground reference for Isolator Side 1.", 3 VIA (in) "Logic Input A.", 4 VIB (in) "Logic Input B.", 5 VIC (in) "Logic Input C.", 6 VID (in) "Logic Input D.", 7 NC "No Connect.", 8 GND1 (power) "Ground 1. Ground reference for Isolator Side 1.", 9 GND2 (power) "Ground 2. Ground reference for Isolator Side 2.", 10 VE2 (in) "Output Enable 2. Active high logic input. VOA, VOB, VOC, and VOD outputs are enabled when VE2 is high or disconnected. VOA, VOB, VOC, and VOD outputs are disabled when VE2 is low. In noisy environments, connecting VE2 to an (See Datasheet)", 11 VOD (hiz) "Logic Output D.", 12 VOC (hiz) "Logic Output C.", 13 VOB (hiz) "Logic Output B.", 14 VOA (hiz) "Logic Output A.", 15 GND2 (power) "Ground 2. Ground reference for Isolator Side 2.", 16 VDD2 (power) "Supply Voltage for Isolator Side 2."

## ADUM2400ARIZ-RL
designator U?
Quad Channel Digital Isolator, 5 KV rms Insulation Rating, 1 Mbps Data Rate, 100 ns Delay, Industrial, 16-pin SOIC (RI-16-1), Reel; Manufacturer: Analog Devices; PartNumber: ADUM2400ARIZ-RL; Insulation Rating (kVrms): 5; Max Data Rate: 1Mbps; DatasheetVersion: 10-12-2010-A; PackageVersion: 10-12-2010-A, 02/2012; PackageReference: RI-16-1; PackageDescription: 16-Pin Standard Small Outline Package, with Increased Creepage, Body 12.8 x 7.5 mm, Pitch 1.27 mm; Supplier 1: Digi-Key; Supplier Part Number 1: ADUM2400ARIZ-RL-ND; Supplier 2: Mouser; Supplier Part Number 2: 584-ADUM2400ARIZ-R; Max Operating Temp (degreesC): 105; Mounting Technology: Surface Mount; Code_JEDEC: MS-013-AC; ComponentLink1Description: Manufacturer URL; ComponentLink1URL: http://www.analog.com/en/index.html; ComponentLink2Description: Datasheet; ComponentLink2URL: http://www.analog.com/static/imported-files/data_sheets/ADuM2400_2401_2402.pdf; ComponentLink3Description: Package Specification; ComponentLink3URL: http://www.analog.com/static/imported-files/data_sheets/ADuM2400_2401_2402.pdf; ComponentLink4Description: URL Link1; ComponentLink4URL: Product URL:http://www.analog.com/en/interface-isolation/digital-isolators/adum2400/products/product.html
footprint ADI-RI-16-1_N (SOIC, 16-Leads, Body 12.8x7.5mm, Pitch 1.27mm, IPC Medium Density)
footprint ADI-RI-16-1_L (SOIC, 16-Leads, Body 12.8x7.5mm, Pitch 1.27mm, IPC High Density)
footprint ADI-RI-16-1_M (SOIC, 16-Leads, Body 12.8x7.5mm, Pitch 1.27mm, IPC Low Density)
pins: 1 VDD1 (power) "Supply Voltage for Isolator Side 1.", 2 GND1 (power) "Ground 1. Ground reference for Isolator Side 1.", 3 VIA (in) "Logic Input A.", 4 VIB (in) "Logic Input B.", 5 VIC (in) "Logic Input C.", 6 VID (in) "Logic Input D.", 7 NC "No Connect.", 8 GND1 (power) "Ground 1. Ground reference for Isolator Side 1.", 9 GND2 (power) "Ground 2. Ground reference for Isolator Side 2.", 10 VE2 (in) "Output Enable 2. Active high logic input. VOA, VOB, VOC, and VOD outputs are enabled when VE2 is high or disconnected. VOA, VOB, VOC, and VOD outputs are disabled when VE2 is low. In noisy environments, connecting VE2 to an (See Datasheet)", 11 VOD (hiz) "Logic Output D.", 12 VOC (hiz) "Logic Output C.", 13 VOB (hiz) "Logic Output B.", 14 VOA (hiz) "Logic Output A.", 15 GND2 (power) "Ground 2. Ground reference for Isolator Side 2.", 16 VDD2 (power) "Supply Voltage for Isolator Side 2."

## ADUM2400ARWZ
designator U?
Quad Channel Digital Isolator, 5 KV rms Insulation Rating, 1 Mbps Data Rate, 100 ns Delay, Industrial, 16-pin SOIC (RW-16), Tube; Manufacturer: Analog Devices; PartNumber: ADUM2400ARWZ; Insulation Rating (kVrms): 5; Max Data Rate: 1Mbps; DatasheetVersion: 10-12-2010-A; PackageVersion: 032707-B, 03/2007; PackageReference: RW-16; PackageDescription: 16-Pin Standard Small Outline Package, Body 10.3 x 7.5 mm, Pitch 1.27 mm; Supplier 1: Digi-Key; Supplier Part Number 1: ADUM2400ARWZ-ND; Supplier 2: Farnell; Supplier Part Number 2: 1117114; Supplier 3: Mouser; Supplier Part Number 3: 584-ADUM2400ARWZ; Max Operating Temp (degreesC): 105; Mounting Technology: Surface Mount; Code_JEDEC: MS-013-AA; ComponentLink1Description: Manufacturer URL; ComponentLink1URL: http://www.analog.com/en/index.html; ComponentLink2Description: Datasheet; ComponentLink2URL: http://www.analog.com/static/imported-files/data_sheets/ADuM2400_2401_2402.pdf; ComponentLink3Description: Package Specification; ComponentLink3URL: http://www.analog.com/static/imported-files/packages/PKG_PDF/SOIC_WIDE%20%28RW%29/RW_16.pdf; ComponentLink4Description: URL Link1; ComponentLink4URL: Product URL:http://www.analog.com/en/interface-isolation/digital-isolators/adum2400/products/product.html
footprint ADI-RW-16_N (SOIC, 16-Leads, Body 10.3x7.5mm, Pitch 1.27mm, IPC Medium Density)
footprint ADI-RW-16_L (SOIC, 16-Leads, Body 10.3x7.5mm, Pitch 1.27mm, IPC High Density)
footprint ADI-RW-16_M (SOIC, 16-Leads, Body 10.3x7.5mm, Pitch 1.27mm, IPC Low Density)
pins: 1 VDD1 (power) "Supply Voltage for Isolator Side 1.", 2 GND1 (power) "Ground 1. Ground reference for Isolator Side 1.", 3 VIA (in) "Logic Input A.", 4 VIB (in) "Logic Input B.", 5 VIC (in) "Logic Input C.", 6 VID (in) "Logic Input D.", 7 NC "No Connect.", 8 GND1 (power) "Ground 1. Ground reference for Isolator Side 1.", 9 GND2 (power) "Ground 2. Ground reference for Isolator Side 2.", 10 VE2 (in) "Output Enable 2. Active high logic input. VOA, VOB, VOC, and VOD outputs are enabled when VE2 is high or disconnected. VOA, VOB, VOC, and VOD outputs are disabled when VE2 is low. In noisy environments, connecting VE2 to an (See Datasheet)", 11 VOD (hiz) "Logic Output D.", 12 VOC (hiz) "Logic Output C.", 13 VOB (hiz) "Logic Output B.", 14 VOA (hiz) "Logic Output A.", 15 GND2 (power) "Ground 2. Ground reference for Isolator Side 2.", 16 VDD2 (power) "Supply Voltage for Isolator Side 2."

## ADUM2400ARWZ-RL
designator U?
Quad Channel Digital Isolator, 5 KV rms Insulation Rating, 1 Mbps Data Rate, 100 ns Delay, Industrial, 16-pin SOIC (RW-16), Reel; Manufacturer: Analog Devices; PartNumber: ADUM2400ARWZ-RL; Insulation Rating (kVrms): 5; Max Data Rate: 1Mbps; DatasheetVersion: 10-12-2010-A; PackageVersion: 032707-B, 03/2007; PackageReference: RW-16; PackageDescription: 16-Pin Standard Small Outline Package, Body 10.3 x 7.5 mm, Pitch 1.27 mm; Supplier 1: Digi-Key; Supplier Part Number 1: ADUM2400ARWZ-RLTR-ND; Supplier 2: Digi-Key; Supplier Part Number 2: ADUM2400ARWZ-RLCT-ND; Supplier 3: Digi-Key; Supplier Part Number 3: ADUM2400ARWZ-RLDKR-ND; Supplier 4: Mouser; Supplier Part Number 4: 584-ADUM2400ARWZ-R; Max Operating Temp (degreesC): 105; Mounting Technology: Surface Mount; Code_JEDEC: MS-013-AA; ComponentLink1Description: Manufacturer URL; ComponentLink1URL: http://www.analog.com/en/index.html; ComponentLink2Description: Datasheet; ComponentLink2URL: http://www.analog.com/static/imported-files/data_sheets/ADuM2400_2401_2402.pdf; ComponentLink3Description: Package Specification; ComponentLink3URL: http://www.analog.com/static/imported-files/packages/PKG_PDF/SOIC_WIDE%20%28RW%29/RW_16.pdf; ComponentLink4Description: URL Link1; ComponentLink4URL: Product URL:http://www.analog.com/en/interface-isolation/digital-isolators/adum2400/products/product.html
footprint ADI-RW-16_N (SOIC, 16-Leads, Body 10.3x7.5mm, Pitch 1.27mm, IPC Medium Density)
footprint ADI-RW-16_L (SOIC, 16-Leads, Body 10.3x7.5mm, Pitch 1.27mm, IPC High Density)
footprint ADI-RW-16_M (SOIC, 16-Leads, Body 10.3x7.5mm, Pitch 1.27mm, IPC Low Density)
pins: 1 VDD1 (power) "Supply Voltage for Isolator Side 1.", 2 GND1 (power) "Ground 1. Ground reference for Isolator Side 1.", 3 VIA (in) "Logic Input A.", 4 VIB (in) "Logic Input B.", 5 VIC (in) "Logic Input C.", 6 VID (in) "Logic Input D.", 7 NC "No Connect.", 8 GND1 (power) "Ground 1. Ground reference for Isolator Side 1.", 9 GND2 (power) "Ground 2. Ground reference for Isolator Side 2.", 10 VE2 (in) "Output Enable 2. Active high logic input. VOA, VOB, VOC, and VOD outputs are enabled when VE2 is high or disconnected. VOA, VOB, VOC, and VOD outputs are disabled when VE2 is low. In noisy environments, connecting VE2 to an (See Datasheet)", 11 VOD (hiz) "Logic Output D.", 12 VOC (hiz) "Logic Output C.", 13 VOB (hiz) "Logic Output B.", 14 VOA (hiz) "Logic Output A.", 15 GND2 (power) "Ground 2. Ground reference for Isolator Side 2.", 16 VDD2 (power) "Supply Voltage for Isolator Side 2."

## ADUM2400BRIZ
designator U?
Quad Channel Digital Isolator, 5 KV rms Insulation Rating, 10 Mbps Data Rate, 50 ns Delay, Industrial, 16-pin SOIC (RI-16-1), Tube; Manufacturer: Analog Devices; PartNumber: ADUM2400BRIZ; Insulation Rating (kVrms): 5; Max Data Rate: 10Mbps; DatasheetVersion: 10-12-2010-A; PackageVersion: 10-12-2010-A, 02/2012; PackageReference: RI-16-1; PackageDescription: 16-Pin Standard Small Outline Package, with Increased Creepage, Body 12.8 x 7.5 mm, Pitch 1.27 mm; Supplier 1: Digi-Key; Supplier Part Number 1: ADUM2400BRIZ-ND; Supplier 2: Mouser; Supplier Part Number 2: 584-ADUM2400BRIZ; Max Operating Temp (degreesC): 105; Mounting Technology: Surface Mount; Code_JEDEC: MS-013-AC; ComponentLink1Description: Manufacturer URL; ComponentLink1URL: http://www.analog.com/en/index.html; ComponentLink2Description: Datasheet; ComponentLink2URL: http://www.analog.com/static/imported-files/data_sheets/ADuM2400_2401_2402.pdf; ComponentLink3Description: Package Specification; ComponentLink3URL: http://www.analog.com/static/imported-files/data_sheets/ADuM2400_2401_2402.pdf; ComponentLink4Description: URL Link1; ComponentLink4URL: Product URL:http://www.analog.com/en/interface-isolation/digital-isolators/adum2400/products/product.html
footprint ADI-RI-16-1_N (SOIC, 16-Leads, Body 12.8x7.5mm, Pitch 1.27mm, IPC Medium Density)
footprint ADI-RI-16-1_L (SOIC, 16-Leads, Body 12.8x7.5mm, Pitch 1.27mm, IPC High Density)
footprint ADI-RI-16-1_M (SOIC, 16-Leads, Body 12.8x7.5mm, Pitch 1.27mm, IPC Low Density)
pins: 1 VDD1 (power) "Supply Voltage for Isolator Side 1.", 2 GND1 (power) "Ground 1. Ground reference for Isolator Side 1.", 3 VIA (in) "Logic Input A.", 4 VIB (in) "Logic Input B.", 5 VIC (in) "Logic Input C.", 6 VID (in) "Logic Input D.", 7 NC "No Connect.", 8 GND1 (power) "Ground 1. Ground reference for Isolator Side 1.", 9 GND2 (power) "Ground 2. Ground reference for Isolator Side 2.", 10 VE2 (in) "Output Enable 2. Active high logic input. VOA, VOB, VOC, and VOD outputs are enabled when VE2 is high or disconnected. VOA, VOB, VOC, and VOD outputs are disabled when VE2 is low. In noisy environments, connecting VE2 to an (See Datasheet)", 11 VOD (hiz) "Logic Output D.", 12 VOC (hiz) "Logic Output C.", 13 VOB (hiz) "Logic Output B.", 14 VOA (hiz) "Logic Output A.", 15 GND2 (power) "Ground 2. Ground reference for Isolator Side 2.", 16 VDD2 (power) "Supply Voltage for Isolator Side 2."

## ADUM2400BRIZ-RL
designator U?
Quad Channel Digital Isolator, 5 KV rms Insulation Rating, 10 Mbps Data Rate, 50 ns Delay, Industrial, 16-pin SOIC (RI-16-1), Reel; Manufacturer: Analog Devices; PartNumber: ADUM2400BRIZ-RL; Insulation Rating (kVrms): 5; Max Data Rate: 10Mbps; DatasheetVersion: 10-12-2010-A; PackageVersion: 10-12-2010-A, 02/2012; PackageReference: RI-16-1; PackageDescription: 16-Pin Standard Small Outline Package, with Increased Creepage, Body 12.8 x 7.5 mm, Pitch 1.27 mm; Supplier 1: Digi-Key; Supplier Part Number 1: ADUM2400BRIZ-RL-ND; Supplier 2: Mouser; Supplier Part Number 2: 584-ADUM2400BRIZ-R; Max Operating Temp (degreesC): 105; Mounting Technology: Surface Mount; Code_JEDEC: MS-013-AC; ComponentLink1Description: Manufacturer URL; ComponentLink1URL: http://www.analog.com/en/index.html; ComponentLink2Description: Datasheet; ComponentLink2URL: http://www.analog.com/static/imported-files/data_sheets/ADuM2400_2401_2402.pdf; ComponentLink3Description: Package Specification; ComponentLink3URL: http://www.analog.com/static/imported-files/data_sheets/ADuM2400_2401_2402.pdf; ComponentLink4Description: URL Link1; ComponentLink4URL: Product URL:http://www.analog.com/en/interface-isolation/digital-isolators/adum2400/products/product.html
footprint ADI-RI-16-1_N (SOIC, 16-Leads, Body 12.8x7.5mm, Pitch 1.27mm, IPC Medium Density)
footprint ADI-RI-16-1_L (SOIC, 16-Leads, Body 12.8x7.5mm, Pitch 1.27mm, IPC High Density)
footprint ADI-RI-16-1_M (SOIC, 16-Leads, Body 12.8x7.5mm, Pitch 1.27mm, IPC Low Density)
pins: 1 VDD1 (power) "Supply Voltage for Isolator Side 1.", 2 GND1 (power) "Ground 1. Ground reference for Isolator Side 1.", 3 VIA (in) "Logic Input A.", 4 VIB (in) "Logic Input B.", 5 VIC (in) "Logic Input C.", 6 VID (in) "Logic Input D.", 7 NC "No Connect.", 8 GND1 (power) "Ground 1. Ground reference for Isolator Side 1.", 9 GND2 (power) "Ground 2. Ground reference for Isolator Side 2.", 10 VE2 (in) "Output Enable 2. Active high logic input. VOA, VOB, VOC, and VOD outputs are enabled when VE2 is high or disconnected. VOA, VOB, VOC, and VOD outputs are disabled when VE2 is low. In noisy environments, connecting VE2 to an (See Datasheet)", 11 VOD (hiz) "Logic Output D.", 12 VOC (hiz) "Logic Output C.", 13 VOB (hiz) "Logic Output B.", 14 VOA (hiz) "Logic Output A.", 15 GND2 (power) "Ground 2. Ground reference for Isolator Side 2.", 16 VDD2 (power) "Supply Voltage for Isolator Side 2."